# Altium schematic symbol library PCA9518A.SchLib: 2 symbols
Pins are listed as number, name and electrical type; pins without a type are passive.

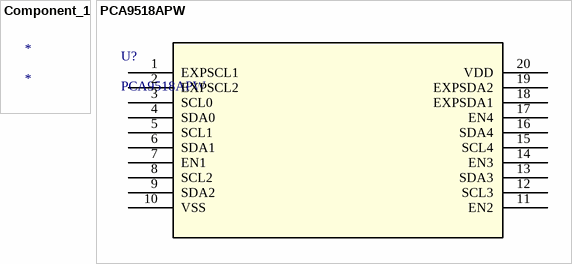
[diagram p0: symbols Component_1 to PCA9518APW]

## Component_1
designator *

## PCA9518APW
designator U?
No Description Available; Vendor: NXP; Built_By: EMA_UL_Team; SourceLibrary: NXP_2011-11-10; Manufacturer_Part_Number: PCA9518APW; Copyright: Copyright (C) 2021 Accelerated Designs. All rights reserved; RefDes: RefDes; Type: DEV
footprint SOT360-1_NXP
pins: 1 EXPSCL1, 2 EXPSCL2, 3 SCL0, 4 SDA0, 5 SCL1, 6 SDA1, 7 EN1, 8 SCL2, 9 SDA2, 10 VSS, 11 EN2, 12 SCL3, 13 SDA3, 14 EN3, 15 SCL4, 16 SDA4, 17 EN4, 18 EXPSDA1, 19 EXPSDA2, 20 VDD